# Altium footprint library open_src_utah.PcbLib: 1 footprints
Each footprint in its own frame and in the unit in brackets; x right, y up, seen from the top. Pads: shape width x height; smd on the part's side, far side on the other; paste and mask are expansions set on the pad; w line width, h text height; cw(c..) or ccw(c..) is an arc to the next point about the centre after c.
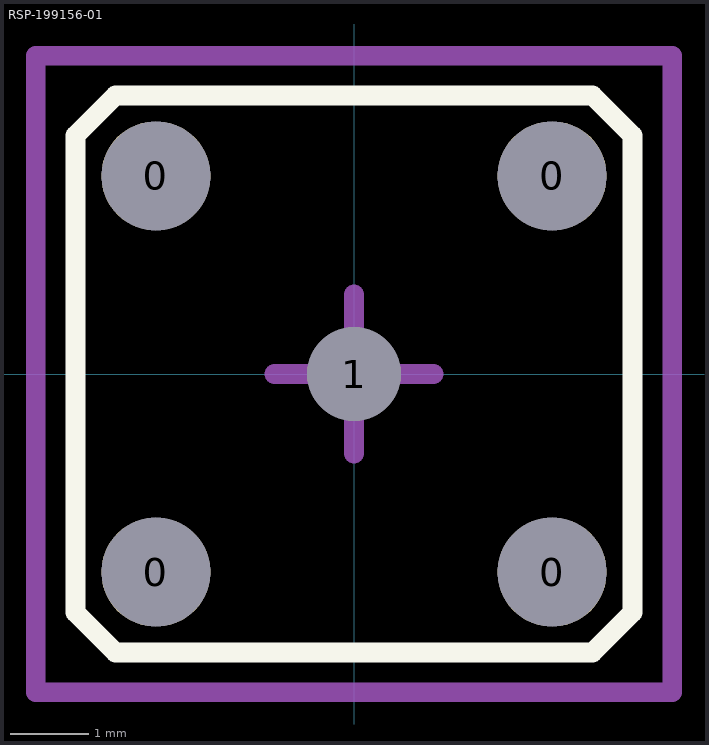
[diagram p0: the footprint, top view; thin cyan lines are the x and y axes]

## RSP-199156-01 [mm] "Samtec MODIFIED 50 OHM MCX JACK PLUG, THROUGH-HOLE"
height 8.4
pads (5):
  round 1.4 hole 1.4 paste+0 mask+0.2: 0(-2.54,-2.54) 0(-2.54,2.54) 0(2.54,-2.54) 0(2.54,2.54)
  round 1.2 hole 1.2 paste+0 mask+0.2: 1(0,0)
Top Overlay:
  lines w0.254: -3.57,-3.06 -3.57,3.06 -3.06,3.57 3.06,3.57 3.57,3.06 3.57,-3.06 3.06,-3.57 -3.06,-3.57 -3.57,-3.06
Top Paste:
  region: -0.51,-3.06 -3.06,-0.51 -4.08,-0.51 -4.08,-4.08 -0.51,-4.08
  region: -0.51,2.04 -2.04,0.51 -2.04,-0.51 -0.51,-2.04 0.51,-2.04 2.04,-0.51 2.04,0.51 0.51,2.04
  region: -0.51,3.06 -3.06,0.51 -4.08,0.51 -4.08,4.08 -0.51,4.08
  region: 0.51,3.06 3.06,0.51 4.08,0.51 4.08,4.08 0.51,4.08
  region: 0.51,-3.06 3.06,-0.51 4.08,-0.51 4.08,-4.08 0.51,-4.08
Mechanical 15:
  lines w0.254: -1.02,0 1.02,0 ; 0,-1.02 0,1.02 ; -4.08,-4.08 4.08,-4.08 4.08,4.08 -4.08,4.08 -4.08,-4.08
3D body "RSP-199156-01.STEP": height 8.42, standoff -1.79, extent -3,-3.002 3,3.001